# Altium schematic symbol library Cap 0.SCHLIB: 3 symbols
Pins are listed as number, name and electrical type; pins without a type are passive.

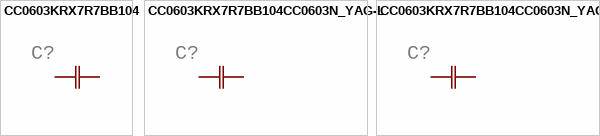
[diagram p0: symbols CC0603KRX7R7BB104 to CC0603KRX7R7BB104CC0603N_YAG-M]

## CC0603KRX7R7BB104
designator C?
GateName_1: A; SymbolName_1: CAPH; DeviceSetName: CC0603KRX7R7BB104; BUILT_BY: EMA_UL_Team; SOURCELIBRARY: Yageo_2008-01-01_ChipCaps1; VENDOR: Yageo; LibraryName: Cap 0.1uf; Package: CC0603N_YAG; MANUFACTURER_PART_NUMBER: CC0603KRX7R7BB104
footprint CC0603N_YAG
pins: 1, 2

## CC0603KRX7R7BB104CC0603N_YAG-L
designator C?
GateName_1: A; SymbolName_1: CAPH; DeviceName: CC0603N_YAG-L; DeviceSetName: CC0603KRX7R7BB104; BUILT_BY: EMA_UL_Team; SOURCELIBRARY: Yageo_2008-01-01_ChipCaps1; VENDOR: Yageo; LibraryName: Cap 0.1uf; Package: CC0603N_YAG-L; MANUFACTURER_PART_NUMBER: CC0603KRX7R7BB104
footprint CC0603N_YAG-L
pins: 1, 2

## CC0603KRX7R7BB104CC0603N_YAG-M
designator C?
GateName_1: A; SymbolName_1: CAPH; DeviceName: CC0603N_YAG-M; DeviceSetName: CC0603KRX7R7BB104; BUILT_BY: EMA_UL_Team; SOURCELIBRARY: Yageo_2008-01-01_ChipCaps1; VENDOR: Yageo; LibraryName: Cap 0.1uf; Package: CC0603N_YAG-M; MANUFACTURER_PART_NUMBER: CC0603KRX7R7BB104
footprint CC0603N_YAG-M
pins: 1, 2